# Altium footprint library FRONT-UNIT.PcbLib: 19 footprints (part 1 of 2)
Each footprint in its own frame and in the unit in brackets; x right, y up, seen from the top. Pads: shape width x height; smd on the part's side, far side on the other; paste and mask are expansions set on the pad; w line width, h text height; cw(c..) or ccw(c..) is an arc to the next point about the centre after c.
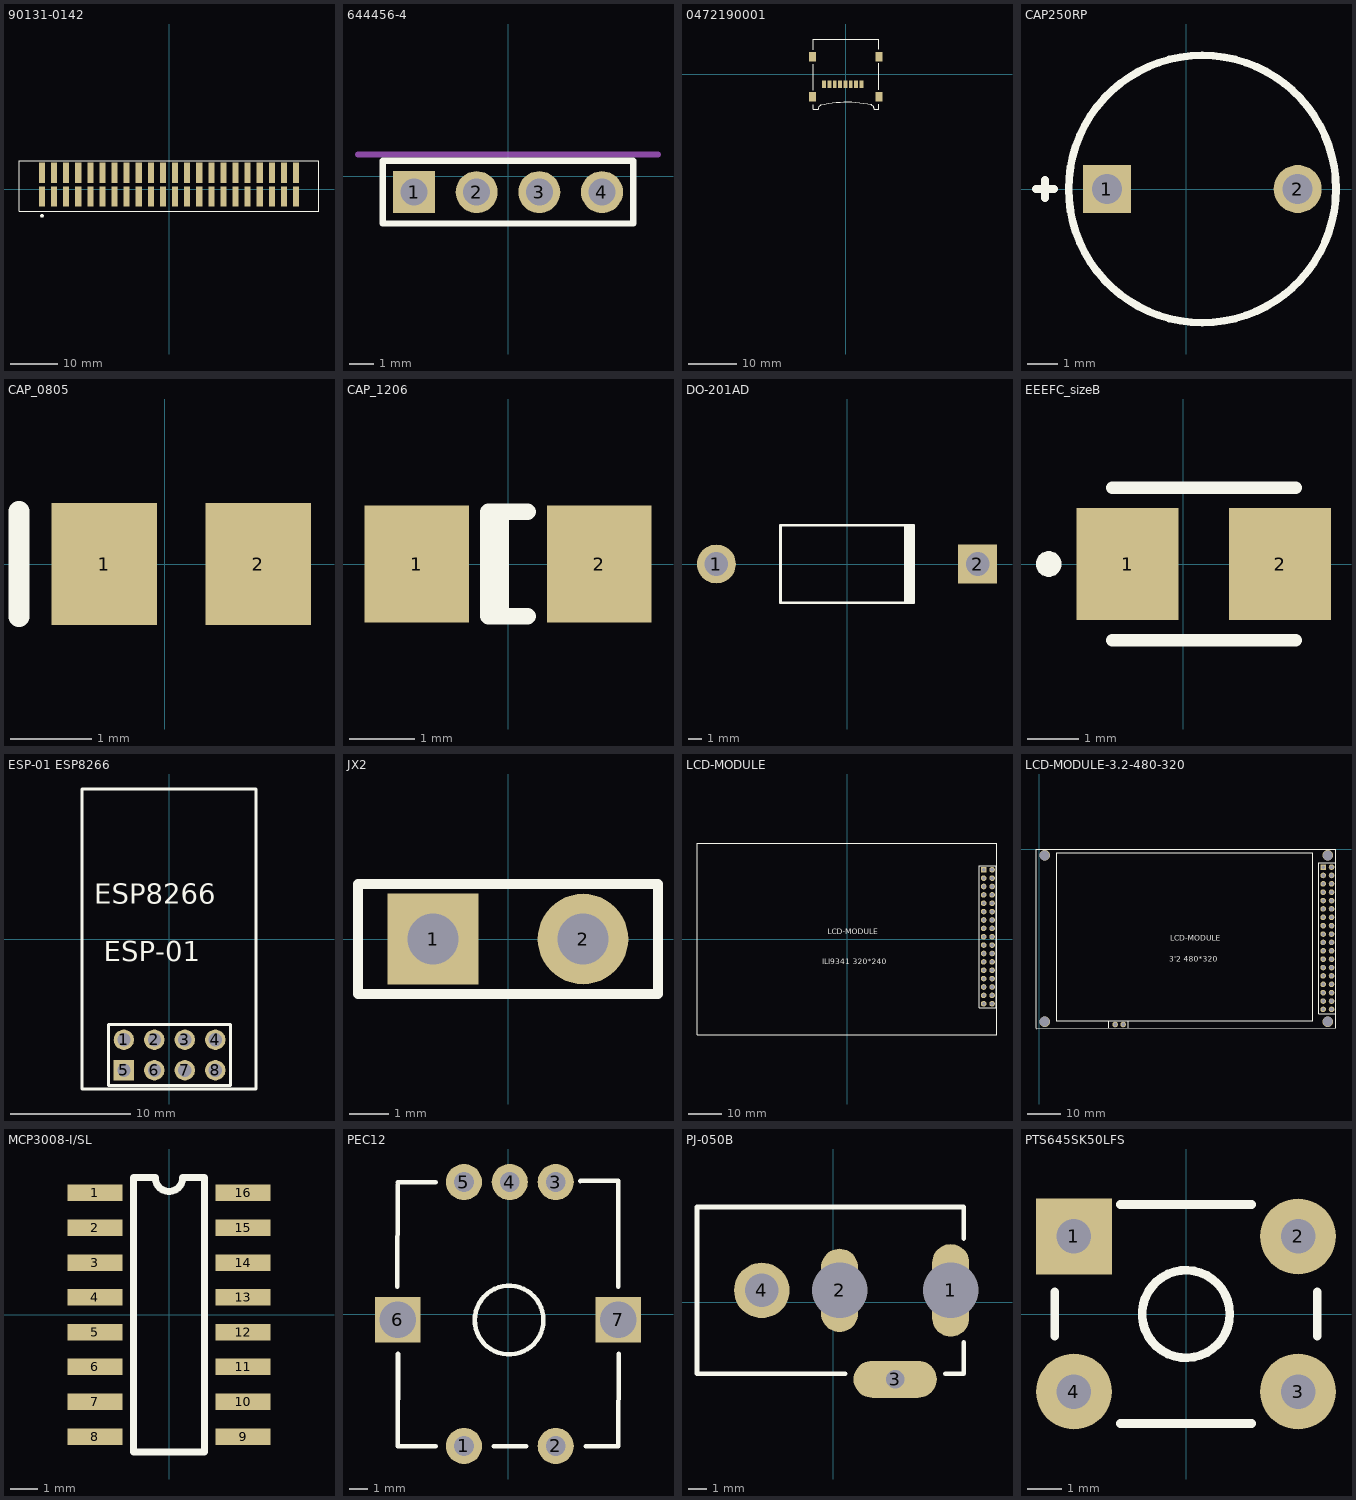
[diagram p0: the footprints below, top view; thin cyan lines are the x and y axes]

## 90131-0142 [mm]
pads (44):
  rect 1.27x4.24 smd: 1(-26.67,-1.582) 2(-26.67,3.427) 3(-24.13,-1.582) 4(-24.13,3.427) 5(-21.59,-1.582) 6(-21.59,3.427) 7(-19.05,-1.582) 8(-19.05,3.427) 9(-16.51,-1.582) 10(-16.51,3.427) 11(-13.97,-1.582) 12(-13.97,3.427) 13(-11.43,-1.582) 14(-11.43,3.427) 15(-8.89,-1.582) 16(-8.89,3.427) 17(-6.35,-1.582) 18(-6.35,3.427) 19(-3.81,-1.582) 20(-3.81,3.427) 21(-1.27,-1.582) 22(-1.27,3.427) 23(1.27,-1.582) 24(1.27,3.427) 25(3.81,-1.582) 26(3.81,3.427) 27(6.35,-1.582) 28(6.35,3.427) 29(8.89,-1.582) 30(8.89,3.427) 31(11.43,-1.582) 32(11.43,3.427) 33(13.97,-1.582) 34(13.97,3.427) 35(16.51,-1.582) 36(16.51,3.427) 37(19.05,-1.582) 38(19.05,3.427) 39(21.59,-1.582) 40(21.59,3.427) 41(24.13,-1.582) 42(24.13,3.427) 43(26.67,-1.582) 44(26.67,3.427)
Top Overlay:
  region: -26.324,-5.627 -26.329,-5.566 -26.345,-5.507 -26.37,-5.452 -26.405,-5.402 -26.448,-5.359 -26.498,-5.324 -26.554,-5.298 -26.612,-5.282 -26.673,-5.277 -26.734,-5.282 -26.793,-5.298 -26.848,-5.324 -26.898,-5.359 -26.941,-5.402 -26.976,-5.452 -27.002,-5.507 -27.017,-5.566 -27.023,-5.627 -27.017,-5.688 -27.002,-5.747 -26.976,-5.802 -26.941,-5.852 -26.898,-5.896 -26.848,-5.931 -26.793,-5.956 -26.734,-5.972 -26.673,-5.977 -26.612,-5.972 -26.554,-5.956 -26.498,-5.931 -26.448,-5.896 -26.405,-5.852 -26.37,-5.802 -26.345,-5.747 -26.329,-5.688
  lines w0.254: -31.495,-4.692 31.495,-4.692 31.495,5.977 -31.495,5.977 -31.495,-4.692

## 644456-4 [mm]
pads (4):
  rect 1.7x1.7 hole 1.1: 1(-3.81,-0.635)
  round 1.7 hole 1.1: 2(-1.27,-0.635) 3(1.27,-0.635) 4(3.81,-0.635)
Top Overlay:
  lines w0.254: -5.08,-1.905 5.08,-1.905 5.08,0.635 -5.08,0.635 -5.08,-1.905
Mechanical 1:
  lines w0.254: -6.08,0.885 6.08,0.885
  text "BOARD EDGE" at -2.207,1.001 h0.42

## 0472190001 [mm]
pads (12):
  rect 0.8x1.5 smd: 1(3.205,-2.1) 2(2.105,-2.1) 3(1.005,-2.1) 4(-0.095,-2.1) 5(-1.195,-2.1) 6(-2.295,-2.1) 7(-3.395,-2.1) 8(-4.495,-2.1)
  rect 1.45x2 smd: 9(-6.875,3.6) 10(-6.875,-4.7) 11(6.875,-4.7) 12(6.875,3.6)
Top Overlay:
  lines w0.254: -6.794,-6.351 -6.794,-7.25 -5.746,-7.25 ; -6.794,-3.306 -6.794,2.044 ; -6.794,5.002 -6.794,7.25 6.794,7.25 6.794,5.148 ; -5.745,-7.242 cw(c-4.78,-7.326) -5.205,-6.456 ; -5.27,-6.469 cw(c0.233,-30.308) 5.32,-6.377 ; 5.204,-6.353 cw(c4.892,-7.261) 5.852,-7.244 ; 5.852,-7.25 6.794,-7.25 6.794,-6.249 ; 6.794,-3.248 6.794,2.204

## CAP250RP [mm]
pads (2):
  rect 1.6x1.6 hole 1: 1(-2.631,0)
  round 1.6 hole 1: 2(3.719,0)
Top Overlay:
  circle w0.254: c0.544,0 r4.45
  lines w0.254: -4.994,0 -4.394,0 ; -4.694,-0.3 -4.694,0.3

## CAP_0805 [mm]
pads (2):
  rect 1.3x1.5 smd: 1(-0.75,0) 2(1.15,0)
Top Overlay:
  lines w0.254: -1.8,-0.65 -1.8,0.65

## CAP_1206 [mm]
pads (2):
  rect 1.6x1.8 smd: 1(-1.4,0) 2(1.4,0)
Top Overlay:
  lines w0.254: -0.11,-0.799 -0.11,0.799 ; 0.299,-0.799 -0.299,-0.799 -0.299,0.799 0.299,0.799

## DO-201AD [mm] "Diode, Axial; Body 9.5 x 5.6 mm (LxDia. max), Lead Dia. 1.32 mm (max)"
height 5.6
pads (2):
  round 2.8 hole 1.7: 1(-9.42,0)
  rect 2.8x2.8 hole 1.7: 2(9.42,0)
Top Overlay:
  rectangle: 4.1,-2.8 4.9,2.8
  lines w0.2: 4.8,-2.8 -4.8,-2.8 -4.8,2.8 4.8,2.8

## EEEFC_sizeB [mm]
pads (2):
  rect 2x2.2 smd: 1(-1.1,0) 2(1.9,0)
Top Overlay:
  region: -2.4,0 -2.404,0.043 -2.415,0.085 -2.434,0.125 -2.458,0.161 -2.489,0.191 -2.525,0.216 -2.565,0.235 -2.607,0.246 -2.65,0.25 -2.693,0.246 -2.736,0.235 -2.775,0.216 -2.811,0.191 -2.842,0.161 -2.866,0.125 -2.885,0.085 -2.896,0.043 -2.9,0 -2.896,-0.043 -2.885,-0.085 -2.866,-0.125 -2.842,-0.161 -2.811,-0.191 -2.775,-0.216 -2.736,-0.235 -2.693,-0.246 -2.65,-0.25 -2.607,-0.246 -2.565,-0.235 -2.525,-0.216 -2.489,-0.191 -2.458,-0.161 -2.434,-0.125 -2.415,-0.085 -2.404,-0.043
  lines w0.254: -1.4,-1.5 2.2,-1.5 ; -1.4,1.5 2.2,1.5

## ESP-01 ESP8266 [mm]
pads (8):
  round 1.7 hole 1.1: 1(-3.76,-8.4) 2(-1.22,-8.4) 3(1.32,-8.4) 4(3.86,-8.4) 6(-1.22,-10.94) 7(1.32,-10.94) 8(3.86,-10.94)
  rect 1.7x1.7 hole 1.1: 5(-3.76,-10.94)
Top Overlay:
  lines w0.254: -7.25,-12.5 7.25,-12.5 7.25,12.5 -7.25,12.5 -7.25,-12.5 ; -5.03,-12.21 5.13,-12.21 5.13,-7.13 -5.03,-7.13 -5.03,-12.21
  text "ESP8266" at -6.213,2.926 h1.67
  text "ESP-01" at -5.441,-1.854 h1.67

## JX2 [mm]
pads (2):
  rect 2.3x2.3 hole 1.3: 1(-1.905,0)
  round 2.3 hole 1.3: 2(1.905,0)
Top Overlay:
  lines w0.254: -3.81,-1.4 3.81,-1.4 3.81,1.4 -3.81,1.4 -3.81,-1.4

## LCD-MODULE [mm]
pads (34):
  rect 1.7x1.7 hole 1.1: 1(41.46,21)
  round 1.7 hole 1.1: 2(44,21) 3(41.46,18.46) 4(44,18.46) 5(41.46,15.92) 6(44,15.92) 7(41.46,13.38) 8(44,13.38) 9(41.46,10.84) 10(44,10.84) 11(41.46,8.3) 12(44,8.3) 13(41.46,5.76) 14(44,5.76) 15(41.46,3.22) 16(44,3.22) 17(41.46,0.68) 18(44,0.68) 19(41.46,-1.86) 20(44,-1.86) 21(41.46,-4.4) 22(44,-4.4) 23(41.46,-6.94) 24(44,-6.94) 25(41.46,-9.48) 26(44,-9.48) 27(41.46,-12.02) 28(44,-12.02) 29(41.46,-14.56) 30(44,-14.56) 31(41.46,-17.1) 32(44,-17.1) 33(41.46,-19.64) 34(44,-19.64)
Top Overlay:
  lines w0.254: -45.5,-29 -45.5,29 45.5,29 45.5,-29 -45.5,-29 ; 40.186,-20.909 40.186,22.272 45.273,22.272 45.273,-20.909 40.186,-20.909
  text "ILI9341 320*240" at -7.532,-7.617 h1.67
  text "LCD-MODULE" at -5.807,1.385 h1.67

## LCD-MODULE-3.2-480-320 [mm]
pads (38):
  rect 1.7x1.7 hole 1.1: 1(86.106,-5.334)
  round 1.7 hole 1.1: 2(88.646,-5.334) 3(86.106,-7.874) 4(88.646,-7.874) 5(86.106,-10.414) 6(88.646,-10.414) 7(86.106,-12.954) 8(88.646,-12.954) 9(86.106,-15.494) 10(88.646,-15.494) 11(86.106,-18.034) 12(88.646,-18.034) 13(86.106,-20.574) 14(88.646,-20.574) 15(86.106,-23.114) 16(88.646,-23.114) 17(86.106,-25.654) 18(88.646,-25.654) 19(86.106,-28.194) 20(88.646,-28.194) 21(86.106,-30.734) 22(88.646,-30.734) 23(86.106,-33.274) 24(88.646,-33.274) 25(86.106,-35.814) 26(88.646,-35.814) 27(86.106,-38.354) 28(88.646,-38.354) 29(86.106,-40.894) 30(88.646,-40.894) 31(86.106,-43.434) 32(88.646,-43.434) 33(86.106,-45.974) 34(88.646,-45.974) 35(86.106,-48.514) 36(88.646,-48.514) 37(23,-53.086) 38(25.416,-53.086)
via 1.6,-1.778 diameter 3.2 hole 3
via 1.6,-52.197 diameter 3.2 hole 3
via 87.5,-52.197 diameter 3.2 hole 3
via 87.5,-1.778 diameter 3.2 hole 3
Top Overlay:
  lines w0.254: -1,-54.3 90,-54 90,0 -1,0 -1,-54.229 ; 21,-54.102 21,-52.07 ; 27,-54.102 27,-52.07 ; 5.08,-51.9 83,-52 83,-1 5.08,-1 5.08,-51.9 ; 84.832,-49.784 84.832,-4.062 89.918,-4.062 89.918,-49.784 84.832,-49.784
  text "3'2 480*320" at 39.37,-34.036 h1.67
  text "LCD-MODULE" at 39.786,-27.698 h1.67

## MCP3008-I/SL [mm]
pads (16):
  rect 2x0.6 smd: 1(-2.7,4.445) 2(-2.7,3.175) 3(-2.7,1.905) 4(-2.7,0.635) 5(-2.7,-0.635) 6(-2.7,-1.905) 7(-2.7,-3.175) 8(-2.7,-4.445) 9(2.7,-4.445) 10(2.7,-3.175) 11(2.7,-1.905) 12(2.7,-0.635) 13(2.7,0.635) 14(2.7,1.905) 15(2.7,3.175) 16(2.7,4.445)
Top Overlay:
  lines w0.254: -1.3,-5 -1.3,5 -0.5,5 ccw(c0,5) 0.5,5 1.3,5 1.3,-5 -1.3,-5

## PEC12 [mm]
pads (7):
  round 2 hole 1.1: 1(-2.44,-7.302) 2(2.64,-7.302) 3(2.64,7.302) 4(0.1,7.302) 5(-2.44,7.302)
  rect 2.5x2.5 hole 2 square: 6(-6.1,-0.318) 7(6.1,-0.318)
Top Overlay:
  circle w0.254: c0.061,-0.338 r1.9
  lines w0.254: -6.12,1.5 -6.101,7.183 ; -6.101,7.283 -6.001,7.283 -4,7.293 ; -6.09,-2.2 -6.101,-7.318 -4,-7.318 ; -0.8,-7.318 1,-7.318 ; 4,7.363 6.101,7.383 6.101,1.5 ; 4.3,-7.318 6.101,-7.318 6.12,-2.2

## PJ-050B [mm]
pads (4):
  oval 2x5 hole 3 square: 1(6.35,0.65)
  oval 2x4.5 hole 3 square: 2(0.35,0.65)
  oval 4.5x2 hole 1 square: 3(3.35,-4.15)
  round 3 hole 1.8: 4(-3.85,0.65)
Top Overlay:
  lines w0.254: 0.65,-3.85 -7.35,-3.85 -7.35,5.15 7.05,5.15 7.05,3.45 ; 6.051,-3.85 7.05,-3.85 7.05,-2.15

## PTS645SK50LFS [mm]
pads (4):
  rect 2.2x2.2 hole 1: 1(-3.25,2.25)
  round 2.2 hole 1: 2(3.25,2.25) 3(3.25,-2.25) 4(-3.25,-2.25)
Top Overlay:
  circle w0.254: c0,0 r1.27
  lines w0.254: -3.81,-0.635 -3.81,0.635 ; -1.904,-3.174 1.904,-3.174 ; -1.904,3.175 1.904,3.175 ; 3.81,-0.635 3.81,0.635